# EAGLE library part OPA1632 (library BurrBrownAudioParts)
OPA1632: High-Performance, Fully-Differential AUDIO OP AMP The OPA1632 is a fully-differential amplifier designed for driving high-performance audio analog-to-digital converters (ADCs). It provides the highest audio quality, with very low noise and output drive characteristics optimized for this application. The OPA1632?s excellent gain bandwidth of 180MHz and very fast slew rate of 50V/µs produce exceptionally low distortion. Very low input noise of 1.3nV/Hz further ensures maximum signal-to-noise ratio and dynamic range. The flexibility of the fully differential architecture allows for easy implementation of a single-ended to fully-differential output conversion. Differential output reduces even-order harmonics and minimizes common-mode noise interference. The OPA1632 provides excellent performance when used to drive high-performance audio ADCs such as the PCM1804. A shutdown feature also enhances the flexibility of this amplifier. The OPA1632 is available in an SO-8 package and a thermally-enhanced MSOP-8 PowerPAD package.
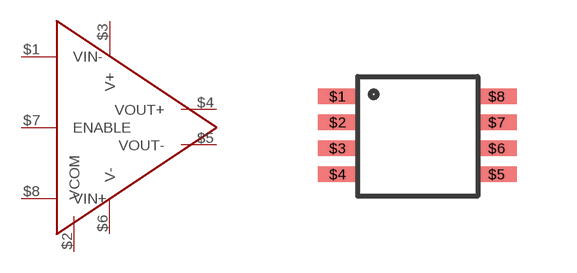
[diagram p11: symbol with the pads of MSOP; footprint MSOP]

Designator prefix -

## OPA1632  [MSOP]
$1  VIN-
$2  VCOM
$3  V+
$4  VOUT+
$5  VOUT-
$6  V-
$7  ENABLE
$8  VIN+

## Footprint MSOP (pad centres in mm)
smd 1 x 0.38: $1 0,0; $2 0,-0.65; $3 0,-1.3; $4 0,-1.95; $5 3.98,-1.95; $6 3.98,-1.3; $7 3.98,-0.65; $8 3.98,0